# Altium integrated library NPTC061KFXC-RC.IntLib: 1 symbol
Pins are listed as number, name and electrical type; pins without a type are passive.

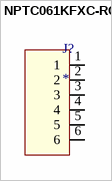
[diagram p0: symbol NPTC061KFXC-RC]

## NPTC061KFXC-RC
designator J?
CONN HDR 6POS 0.1 TIN SMD / Manufacturer PN: NPTC061KFXC-RC
footprint NPTC061KFXC-RC
pins: 1, 2, 3, 4, 5, 6